# Altium schematic symbol library Schlib1.SchLib: 8 symbols
Pins are listed as number, name and electrical type; pins without a type are passive.

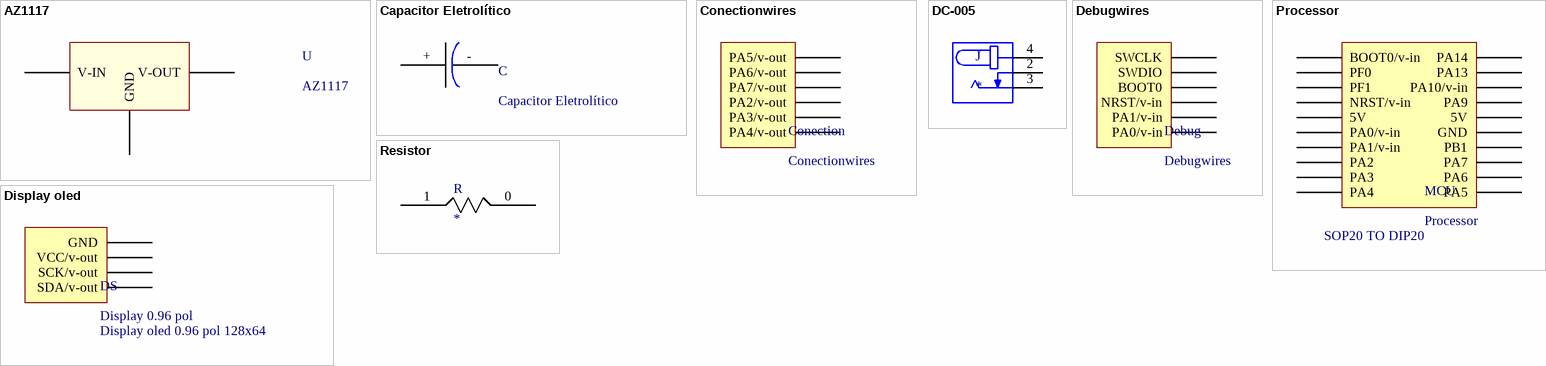
[diagram p0: symbols AZ1117 to Resistor]

## AZ1117
designator U
Converter 5v to 3.3v; Fornecimento: 5 unidades dadas pelo LESC; Availability: Avaliable; Datasheet_Link: https://www.digikey.com/en/datasheets/diodes-incorporated/diodes-incorporated-az1117c; Link_to_buy: https://produto.mercadolivre.com.br/MLB-1647161150-transistor-az1117-25tre1-az1117-25-1117-25-kit-5-pecas-_JM#position=1&type=item&tracking_id=ce52b624-396d-47aa-8cab-d923e44ab95b; Price: R$ 34.00 / 50 unidades
footprint AZ1117
pins: GND, V-IN, V-OUT

## Capacitor Eletrolítico
designator C
Value: R$: 0.70 /5 unidades; Availability: Avaliable; Link_Autocore: https://www.autocorerobotica.com.br/capacitor-eletrolitico-22uf-25v-kit-com-5-unidades; Datasheet_link: https://www.electron.com/electrolytic-capacitor-jamicon-skr220m1ed11m-p1278/
footprint Capacitor
pins: +, -

## Conectionwires
designator Conection
6 out; Dimensões: https://www.autocorerobotica.com.br/barra-de-40-pinos-femea-x5-unidades; buy: https://www.autocorerobotica.com.br/barra-pinos-macho-180
footprint Conectionwires
pins: PA2 PA2/v-out, PA3 PA3/v-out, PA4 PA4/v-out, PA5 PA5/v-out, PA6 PA6/v-out, PA7 PA7/v-out

## DC-005
designator J
Polymeric PTC Resettable Fuse 15V 50mA Ih Surface Mount 0603 _1608 Metric_, Concave; MF: Littelfuse Inc.; MP: DC-005; Price: None; SnapEDA_Link: https://www.snapeda.com/parts/DC-005/Littelfuse%20Inc./view-part/2874446/?ref=snap; Value: *; Availability: Unavailable; Package: 0603 Ninigi; link_mercadolivre: https://produto.mercadolivre.com.br/MLB-1497128338-10-pecas-jack-j4-21mm-para-placa-plug-p4-arduino-_JM?quantity=1#position=1&type=item&tracking_id=8412b441-44a9-4b74-b006-990053047356
footprint NINIGI_DC-005
pins: 2 4, 3, 4 2

## Debugwires
designator Debug
2 in; buy: https://www.autocorerobotica.com.br/barra-de-40-pinos-femea-x5-unidades
footprint Debugwires
pins: BOOT0, NRST NRST/v-in, PA0 PA0/v-in, PA1 PA1/v-in, PA13 SWDIO, PA14 SWCLK

## Display oled
designator DS, comment Display 0.96 pol  Informations: Display oled 0.96 pol 128x64
0.96 pol 24.7x27 cm; link to buy and measurements: https://pt.aliexpress.com/item/32896971385.html?spm=a2g0o.productlist.0.0.6ecd7bb88K6sVT&algo_pvid=5cb829e2-0bf1-4f55-8bae-71a0ff6fa1f2&algo_expid=5cb829e2-0bf1-4f55-8bae-71a0ff6fa1f2-0&btsid=0ab50f6215875744850722033e6e98&ws_ab_test=searchweb0_0,searchweb201602_,searchweb201603_; link_mercadolivre: https://produto.mercadolivre.com.br/MLB-1549862447-display-oled-096-azul-amarelo-i2c-128x64-arduino-raspberry-_JM?quantity=1#position=4&type=item&tracking_id=dc610daf-3617-4627-bdd2-8ae4acf904ab
footprint Display oled (24.7x27)
pins: GND, SCK SCK/v-out, SDA SDA/v-out, VCC VCC/v-out

## Processor
designator MCU  Adapter: SOP20 TO DIP20
Processor arm Stm32f0xx; Link to buy: https://www.autocorerobotica.com.br/adaptador-sop20-ssop20-tssop20-smd-para-dip-20; Measurements link: https://alltopnotch.co.uk/product/2-x-sop20-s020-soic20-tssop20-msop20-to-dip20-adapter-board-smd-breakout/
footprint Processor
pins: 5V, 5V, BOOT0 BOOT0/v-in, GND, NRST NRST/v-in, PA0 PA0/v-in "v-in", PA1 PA1/v-in, PA2, PA3, PA4, PA5, PA6, PA7, PA9, PA10 PA10/v-in, PA13, PA14, PB1, PF0, PF1

## Resistor
designator R
link: https://br.mouser.com/ProductDetail/Yageo/CFR-25JR-52-10K?qs=%2Fha2pyFaduiTiIBN4nMIC9GCze%2FKAJJdvHJO1ozlZ%2F4%3D
footprint resistor
pins: 0, 1